# EAGLE library part LOGIC-4029 (library tidyeagle)
4029 Presettable Up/Down Counter Datasheet: Texas Instruments CD4029B <http://www.ti.com/lit/ds/symlink/cd4029b.pdf> Application Notes: Supply: 3V - 18V The CARRY-IN line should be connected to GND if not used. Counts up when UP/DOWN is HIGH. Counts in decade (0-9) when BIN/DEC is LOW. If the PRE pin is high at the start of a clock cycle, the contents of J1-J4 are loaded into the outputs, therefore tie unused J* inputs to GND.
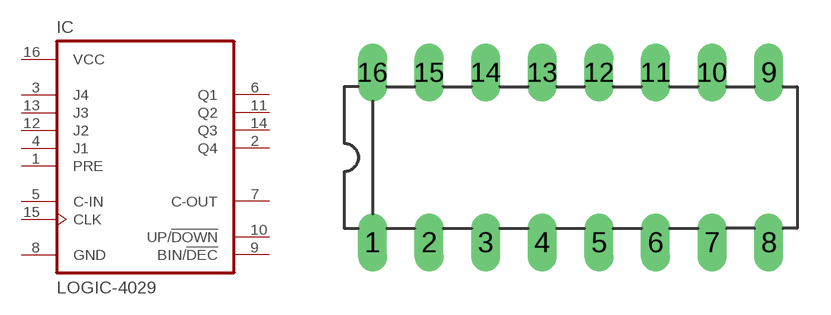
[diagram p29: symbol with the pads of DIL16-3; footprint DIL16-3]

Designator prefix IC

## LOGIC-4029-DIL16  [DIL16-3]
1  PRE  in
2  Q4  out
3  J4  out
4  J1  out
5  C-IN  out
6  Q1  out
7  C-OUT  out
8  GND
9  BIN/!DEC  out
10  UP/!DOWN  out
11  Q2  out
12  J2  out
13  J3  out
14  Q3  out
15  CLK  in
16  VCC

## Footprint DIL16-3 (pad centres in mm)
drill 0.8 long: 1 -8.89,-3.81; 2 -6.35,-3.81; 3 -3.81,-3.81; 4 -1.27,-3.81; 5 1.27,-3.81; 6 3.81,-3.81; 7 6.35,-3.81; 8 8.89,-3.81; 9 8.89,3.81; 10 6.35,3.81; 11 3.81,3.81; 12 1.27,3.81; 13 -1.27,3.81; 14 -3.81,3.81; 15 -6.35,3.81; 16 -8.89,3.81